# EAGLE library part TCA6507 (library me)
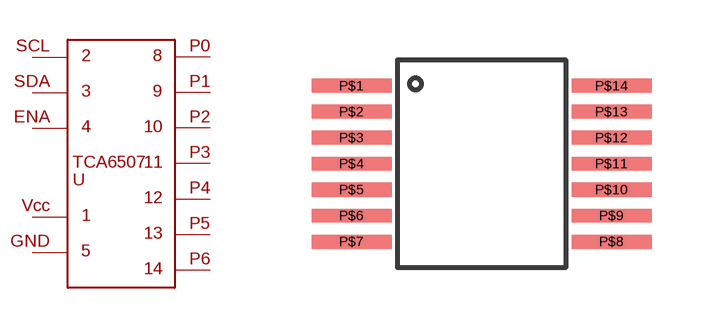
[diagram p5: symbol with the pads of TSSOP-14; footprint TSSOP-14]

Designator prefix U

## TCA6507  [TSSOP-14]
P$1  P$1
P$2  P$2
P$3  P$3
P$4  P$4
P$5  P$5
P$8  P$8
P$9  P$9
P$10  P$10
P$11  P$11
P$12  P$12
P$13  P$13
P$14  P$14

## Footprint TSSOP-14 (pad centres in mm)
smd 2 x 0.35: P$1 -3.25,1.95; P$2 -3.25,1.3; P$3 -3.25,0.65; P$4 -3.25,0; P$5 -3.25,-0.65; P$6 -3.25,-1.3; P$7 -3.25,-1.95; P$8 3.25,-1.95; P$9 3.25,-1.3; P$10 3.25,-0.65; P$11 3.25,0; P$12 3.25,0.65; P$13 3.25,1.3; P$14 3.25,1.95